# Altium schematic symbol library pnp-bjt_0.Schlib: 1 symbol
Pins are listed as number, name and electrical type; pins without a type are passive.

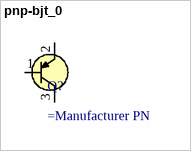
[diagram p0: symbol pnp-bjt_0]

## pnp-bjt_0
designator Q?
PNP BJT Terminal
pins: 1 B, 2 E, 3 C